# EAGLE library part TDC1000 (library JOSHUA)
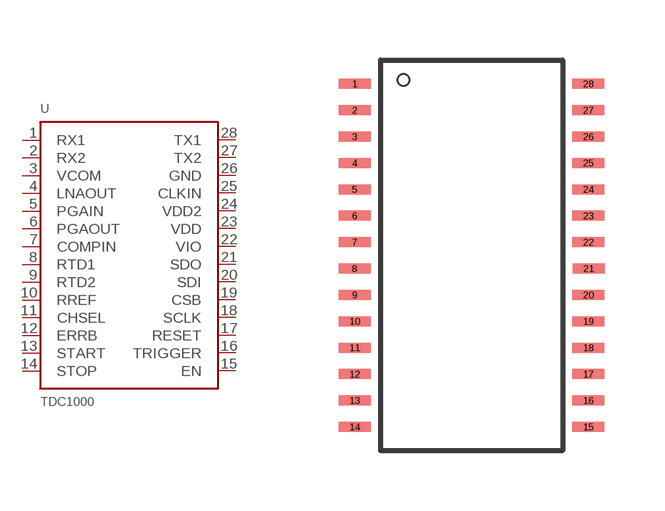
[diagram p11: symbol with the pads of TSSOP28; footprint TSSOP28]

Designator prefix -

## TDC1000  [TSSOP28]
1  RX1
2  RX2
3  VCOM
4  LNAOUT
5  PGAIN
6  PGAOUT
7  COMPIN
8  RTD1
9  RTD2
10  RREF
11  CHSEL
12  ERRB
13  START
14  STOP
15  EN
16  TRIGGER
17  RESET
18  SCLK
19  CSB
20  SDI
21  SDO
22  VIO
23  VDD
24  VDD2
25  CLKIN
26  GND
27  TX2
28  TX1

## Footprint TSSOP28 (pad centres in mm)
smd 0.8 x 0.25: 1 -2.921,4.623; 2 -2.921,3.962; 3 -2.921,3.302; 4 -2.921,2.642; 5 -2.921,1.981; 6 -2.921,1.321; 7 -2.921,0.66; 8 -2.927,0; 9 -2.921,-0.66; 10 -2.921,-1.321; 11 -2.921,-1.981; 12 -2.921,-2.642; 13 -2.921,-3.302; 14 -2.921,-3.962; 15 2.921,-3.962; 16 2.921,-3.302; 17 2.921,-2.642; 18 2.921,-1.981; 19 2.921,-1.321; 20 2.921,-0.66; 21 2.927,0; 22 2.921,0.66; 23 2.921,1.321; 24 2.921,1.981; 25 2.921,2.642; 26 2.921,3.302; 27 2.921,3.962; 28 2.921,4.623